# Altium integrated library 2-2176744-2.IntLib: 1 symbol
Pins are listed as number, name and electrical type; pins without a type are passive.

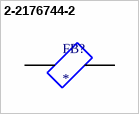
[diagram p0: symbol 2-2176744-2]

## 2-2176744-2
designator FB?
600 Ohms @ 100 MHz 1 Power Line Ferrite Bead 0805 (2012 Metric) 1.5A 250mOhm; MF: TE Connectivity Passive Product; MP: 2-2176744-2; SnapEDA_Link: https://www.snapeda.com/parts/2-2176744-2/TE/view-part/?ref=snap; Package: None; Value: *; Check_prices: https://www.snapeda.com/parts/2-2176744-2/TE/view-part/?ref=eda
footprint BEADC2012X110N
pins: 1, 2